# Altium footprint library USB_Connector_Series_PCB_Library_ARAF.PcbLib: 1 footprints
Each footprint in its own frame and in the unit in brackets; x right, y up, seen from the top. Pads: shape width x height; smd on the part's side, far side on the other; paste and mask are expansions set on the pad; w line width, h text height; cw(c..) or ccw(c..) is an arc to the next point about the centre after c.
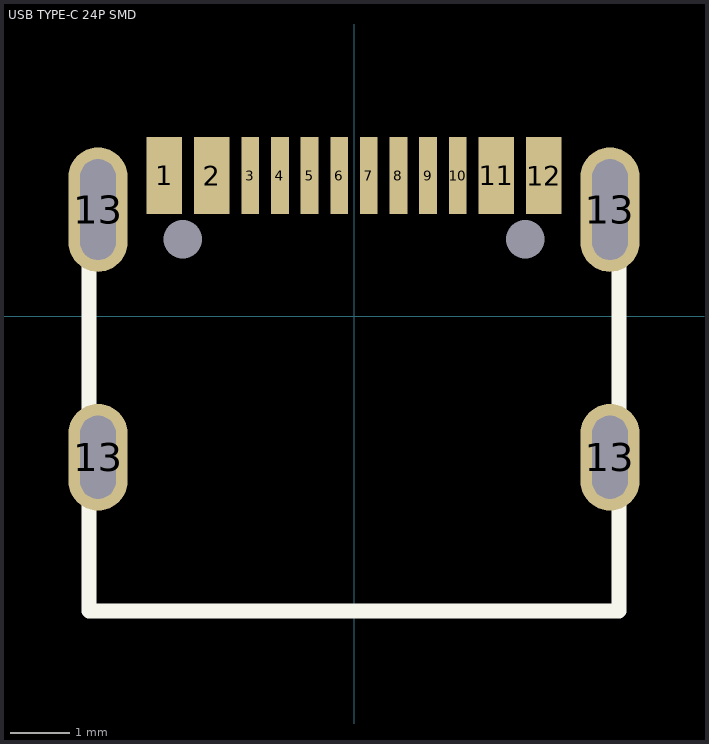
[diagram p0: the footprint, top view; thin cyan lines are the x and y axes]

## USB TYPE-C 24P SMD [mm]
pads (18):
  rect 0.6x1.3 smd mask+0.038: 1(-3.2,2.378) 2(-2.4,2.378) 11(2.4,2.378) 12(3.2,2.378)
  rect 0.3x1.3 smd mask+0.038: 3(-1.75,2.378) 4(-1.25,2.378) 5(-0.75,2.378) 6(-0.25,2.378) 7(0.25,2.378) 8(0.75,2.378) 9(1.25,2.378) 10(1.75,2.378)
  rrect100% 1x1.8 hole 1.4 slot 0.6 at 0 deg: 13(-4.32,-2.377) 13(4.32,-2.377)
  rrect100% 1x2.1 hole 1.7 slot 0.6 at 0 deg: 13(-4.32,1.803) 13(4.32,1.803)
  round 0 hole 0.65 unplated: ""(-2.89,1.303) ""(2.89,1.303)
Top Layer:
  pour cut-out: -2.289,2.378
Top Overlay:
  lines w0.254: -4.47,2.378 -4.47,-4.972 0,-4.972 4.47,-4.972 4.47,2.378
3D body "TYPE-C-16P.STEP": height 3.16, standoff -1, extent -4.47,-4.984 4.47,2.766
3D body: height 0.25, standoff 0, extent 0.015,-1.309 0.015,-1.309